# EAGLE library part ARDUINO_DUE (library LVK)
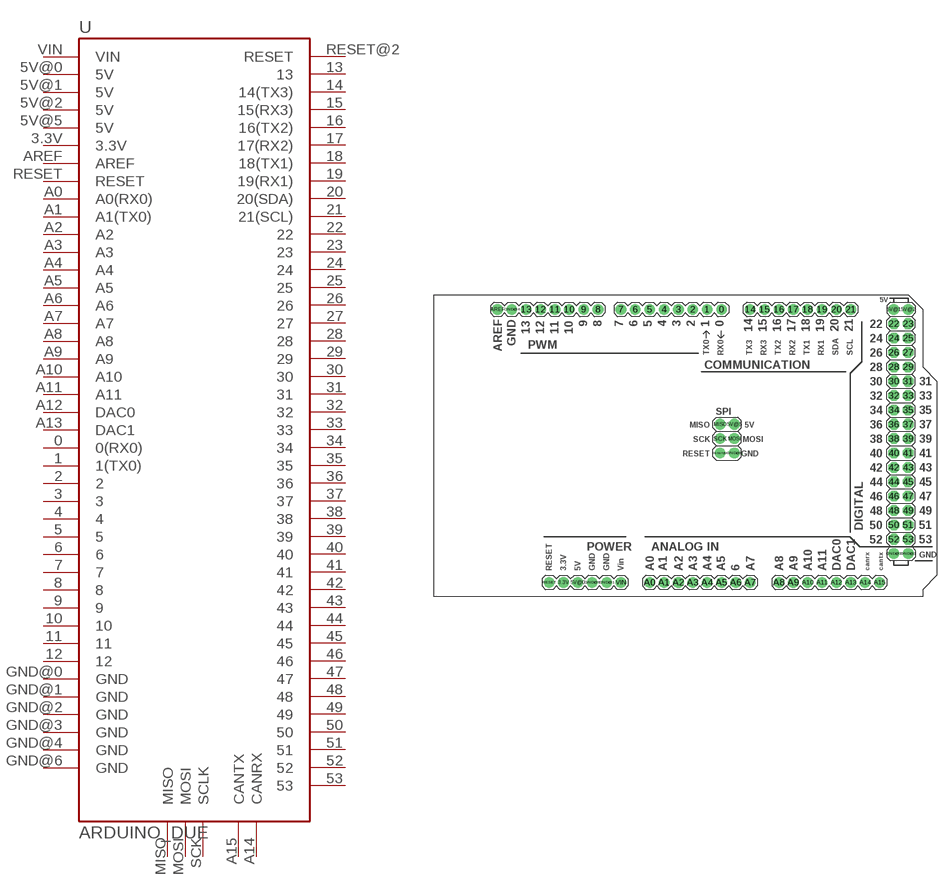
[diagram p2: symbol with the pads of ARDUINO_DUE; footprint ARDUINO_DUE]

Designator prefix -

## ARDUINO_DUE  [ARDUINO_DUE]
0  0(RX0)
1  1(TX0)
2  2
3  3
3.3V  3.3V
4  4
5  5
5V@0  5V
5V@1  5V
5V@2  5V
5V@5  5V
6  6
7  7
8  8
9  9
10  10
11  11
12  12
13  13
14  14(TX3)
15  15(RX3)
16  16(TX2)
17  17(RX2)
18  18(TX1)
19  19(RX1)
20  20(SDA)
21  21(SCL)
22  22
23  23
24  24
25  25
26  26
27  27
28  28
29  29
30  30
31  31
32  32
33  33
34  34
35  35
36  36
37  37
38  38
39  39
40  40
41  41
42  42
43  43
44  44
45  45
46  46
47  47
48  48
49  49
50  50
51  51
52  52
53  53
A0  A0(RX0)
A1  A1(TX0)
A2  A2
A3  A3
A4  A4
A5  A5
A6  A6
A7  A7
A8  A8
A9  A9
A10  A10
A11  A11
A12  DAC0
A13  DAC1
A14  CANRX
A15  CANTX
AREF  AREF
GND@0  GND
GND@1  GND
GND@2  GND
GND@3  GND
GND@4  GND
GND@6  GND
MISO  MISO
MOSI  MOSI
RESET  RESET
RESET@2  RESET
SCK  SCLK
VIN  VIN

## Footprint ARDUINO_DUE (pad centres in mm)
drill 1.016 pad 1.88: 0 6.35,22.86; 1 3.81,22.86; 2 1.27,22.86; 3 -1.27,22.86; 3.3V -21.59,-25.4; 4 -3.81,22.86; 5 -6.35,22.86; 5V@0 -19.05,-25.4; 5V@1 36.83,22.86; 5V@2 39.37,22.86; 5V@5 8.636,2.54; 6 -8.89,22.86; 7 -11.43,22.86; 8 -15.494,22.86; 9 -18.034,22.86; 10 -20.574,22.86; 11 -23.114,22.86; 12 -25.654,22.86; 13 -28.194,22.86; 14 11.43,22.86; 15 13.97,22.86; 16 16.51,22.86; 17 19.05,22.86; 18 21.59,22.86; 19 24.13,22.86; 20 26.67,22.86; 21 29.21,22.86; A0 -6.35,-25.4; A1 -3.81,-25.4; A2 -1.27,-25.4; A3 1.27,-25.4; A4 3.81,-25.4; A5 6.35,-25.4; A6 8.89,-25.4; A7 11.43,-25.4; A8 16.51,-25.4; A9 19.05,-25.4; A10 21.59,-25.4; A11 24.13,-25.4; A12 26.67,-25.4; A13 29.21,-25.4; A14 31.75,-25.4; A15 34.29,-25.4; AREF -33.274,22.86; GND@0 -16.51,-25.4; GND@1 -13.97,-25.4; GND@2 36.83,-20.32; GND@3 39.37,-20.32; GND@4 -30.734,22.86; GND@6 8.636,-2.54; MISO 6.096,2.54; MOSI 8.636,0; RESET -24.13,-25.4; RESET@2 6.096,-2.54; SCK 6.096,0; VIN -11.43,-25.4
drill 1.016 pad 1.88 octagon: 22 36.83,20.32; 23 39.37,20.32; 24 36.83,17.78; 25 39.37,17.78; 26 36.83,15.24; 27 39.37,15.24; 28 36.83,12.7; 29 39.37,12.7; 30 36.83,10.16; 31 39.37,10.16; 32 36.83,7.62; 33 39.37,7.62; 34 36.83,5.08; 35 39.37,5.08; 36 36.83,2.54; 37 39.37,2.54; 38 36.83,0; 39 39.37,0; 40 36.83,-2.54; 41 39.37,-2.54; 42 36.83,-5.08; 43 39.37,-5.08; 44 36.83,-7.62; 45 39.37,-7.62; 46 36.83,-10.16; 47 39.37,-10.16; 48 36.83,-12.7; 49 39.37,-12.7; 50 36.83,-15.24; 51 39.37,-15.24; 52 36.83,-17.78; 53 39.37,-17.78